# EAGLE library part MC74LVX08DTR2G (library ruark2)
Quad 2-Input AND Gate AND Gate IC 4 Channel 14-TSSOP
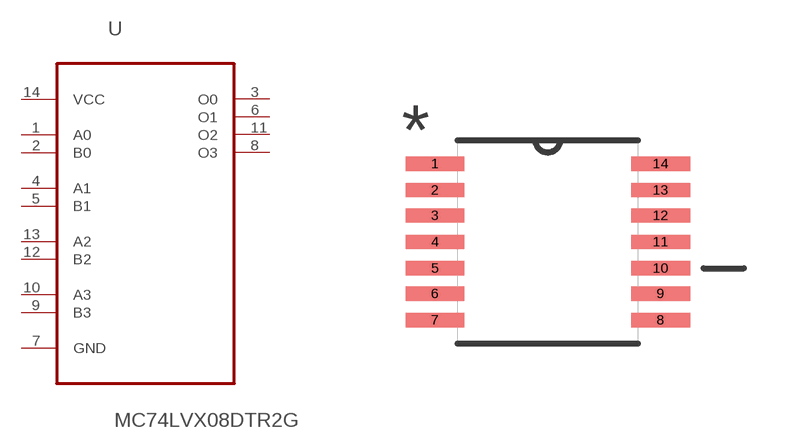
[diagram p3: symbol with the pads of SOP65P640X120-14N; footprint SOP65P640X120-14N]

Designator prefix U

## MC74LVX08DTR2G (MPN: MC74LVX08DTR2G; OC_FARNELL: 1353762; OC_NEWARK: 26K4279; PACKAGE: TSSOP-14; PARTNO: MC74LVX08DTR2GOSCT-ND; SUPPLIER: On Semiconductor)  [SOP65P640X120-14N]
1  A0  in
2  B0  in
3  O0  out
4  A1  in
5  B1  in
6  O1  out
7  GND  pas
8  O3  out
9  B3  in
10  A3  in
11  O2  out
12  B2  in
13  A2  in
14  VCC  pwr

## Footprint SOP65P640X120-14N (pad centres in mm)
smd 1.473 x 0.356: 1 -2.819,1.956; 2 -2.819,1.295; 3 -2.819,0.66; 4 -2.819,0; 5 -2.819,-0.66; 6 -2.819,-1.295; 7 -2.819,-1.956; 8 2.819,-1.956; 9 2.819,-1.295; 10 2.819,-0.66; 11 2.819,0; 12 2.819,0.66; 13 2.819,1.295; 14 2.819,1.956